# Altium footprint library Misc.PcbLib: 53 footprints (part 2 of 4)
Each footprint in its own frame and in the unit in brackets; x right, y up, seen from the top. Pads: shape width x height; smd on the part's side, far side on the other; paste and mask are expansions set on the pad; w line width, h text height; cw(c..) or ccw(c..) is an arc to the next point about the centre after c.
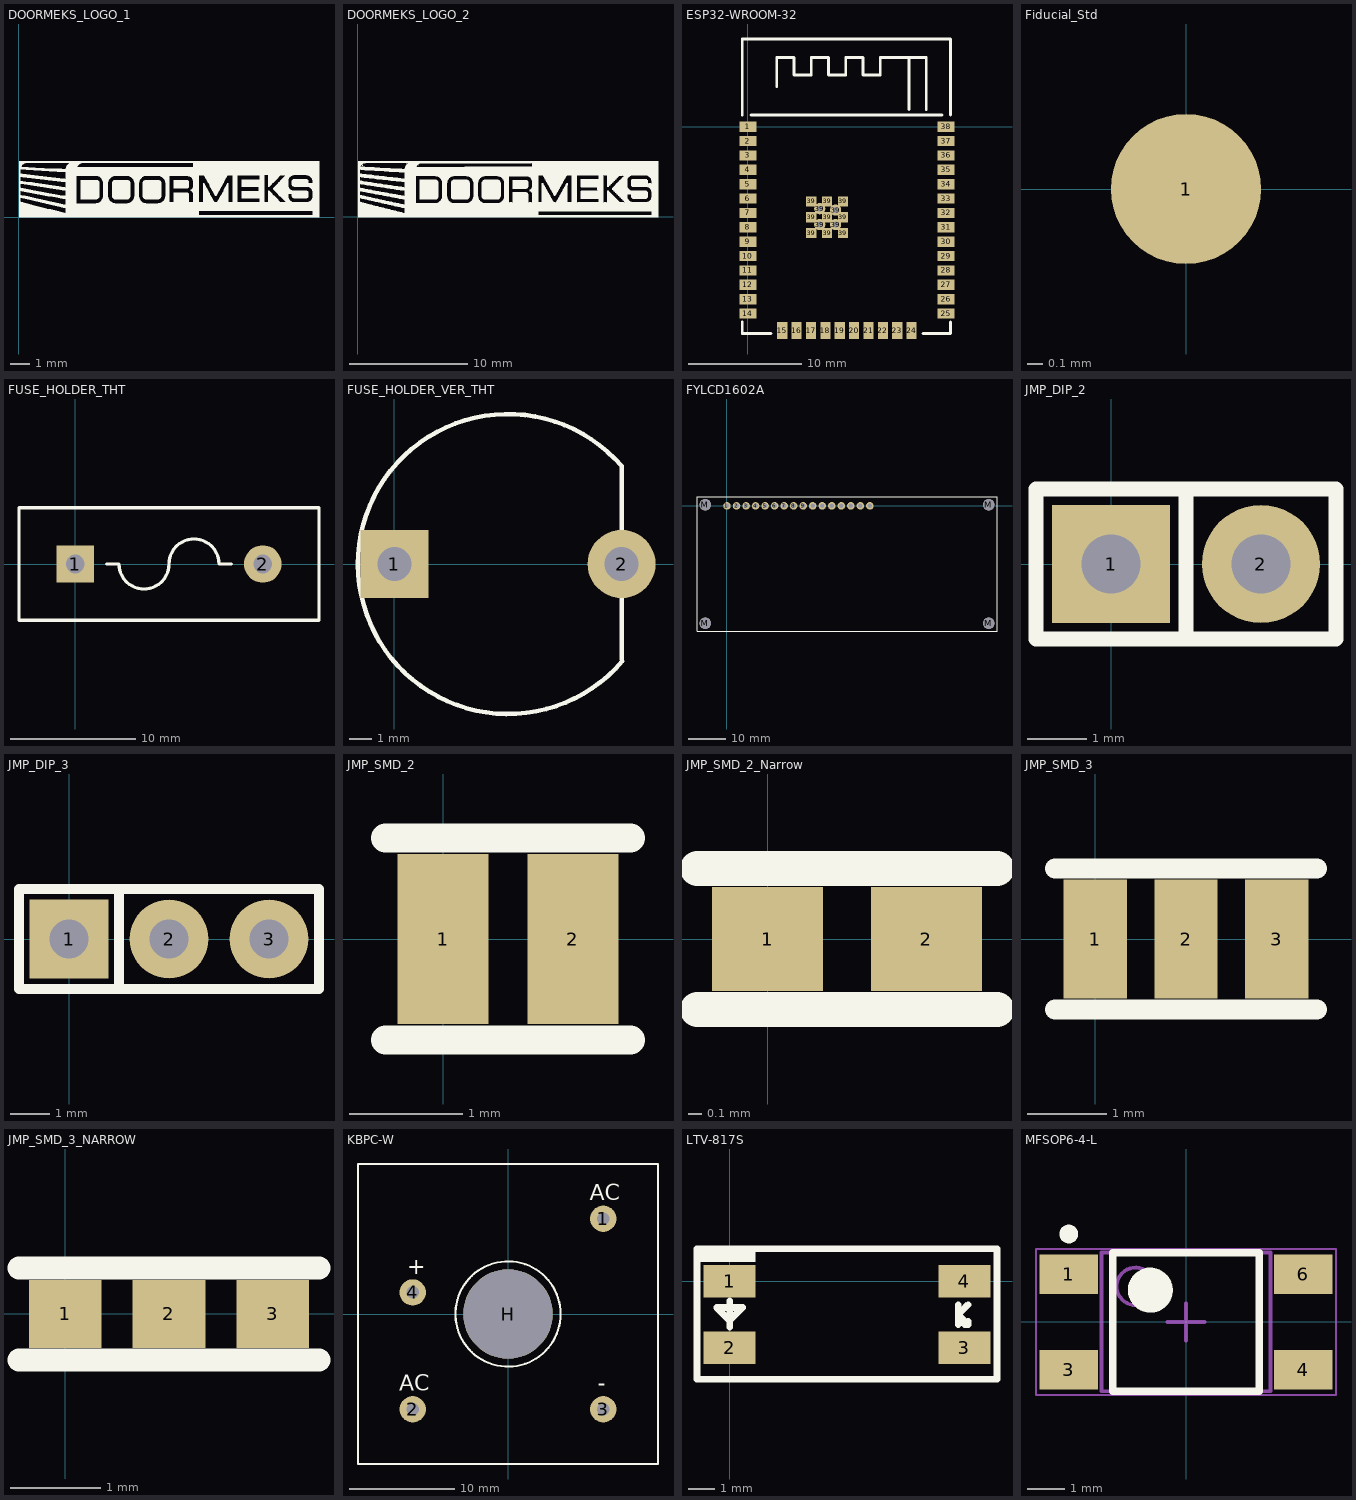
[diagram p1: the footprints below, top view; thin cyan lines are the x and y axes]

## DOORMEKS_LOGO_1 [mm]
Top Overlay:
  drawing of 1132 lines, arcs and shapes, not listed

## DOORMEKS_LOGO_2 [mm]
Top Overlay:
  drawing of 1761 lines, arcs and shapes, not listed

## ESP32-WROOM-32 [mm]
height 3
pads (51):
  rect 1.5x0.9 smd: 1(0,0) 2(0,-1.27) 3(0,-2.54) 4(0,-3.81) 5(0,-5.08) 6(0,-6.35) 7(0,-7.62) 8(0,-8.89) 9(0,-10.16) 10(0,-11.43) 11(0,-12.7) 12(0,-13.97) 13(0,-15.24) 14(0,-16.51) 25(17.5,-16.51) 26(17.5,-15.24) 27(17.5,-13.97) 28(17.5,-12.7) 29(17.5,-11.43) 30(17.5,-10.16) 31(17.5,-8.89) 32(17.5,-7.62) 33(17.5,-6.35) 34(17.5,-5.08) 35(17.5,-3.81) 36(17.5,-2.54) 37(17.5,-1.27) 38(17.5,0)
  rect 0.9x1.5 smd: 15(3.03,-18.01) 16(4.3,-18.01) 17(5.57,-18.01) 18(6.84,-18.01) 19(8.11,-18.01) 20(9.38,-18.01) 21(10.65,-18.01) 22(11.92,-18.01) 23(13.19,-18.01) 24(14.46,-18.01)
  rect 0.9x0.9 smd: 39(5.592,-9.398) 39(5.592,-7.998) 39(5.592,-6.598) 39(6.992,-6.598) 39(6.992,-9.398) 39(6.992,-7.998) 39(8.392,-6.598) 39(8.392,-9.398) 39(8.392,-7.998)
  round 1 hole 0.5: 39(6.342,-8.648) 39(6.342,-7.248) 39(7.742,-8.648) 39(7.742,-7.366)
Top Overlay:
  lines w0.254: -0.508,-17.272 -0.508,-18.288 2.032,-18.288 ; -0.508,1.016 -0.508,7.747 17.907,7.747 17.907,1.016 ; 0.254,1.016 17.145,1.016 ; 2.54,3.556 2.54,6.096 4.064,6.096 4.064,4.572 5.588,4.572 5.588,6.096 7.112,6.096 7.112,4.572 8.636,4.572 8.636,6.096 10.16,6.096 10.16,4.572 11.684,4.572 11.684,6.096 12.7,6.096 15.748,6.096 15.748,1.524 ; 14.224,1.524 14.224,6.096 ; 15.468,-18.288 17.907,-18.288 17.907,-17.272
3D body "esp-wroom-32.step": height 3, standoff -0.04, extent -0.314,-18.049 17.756,7.491

## Fiducial_Std [mm]
pads (1):
  round 1 smd paste-0.5: 1(0,0)
Top Solder:
  rectangle: -1,-1 1,1

## FUSE_HOLDER_THT [mm]
height 10
pads (2):
  rect 3x3 hole 1.5: 1(0,0)
  round 3 hole 1.5: 2(15,0)
Top Overlay:
  lines w0.254: 2.5,0 3.5,0 ccw(c5.5,0) 7.5,0 cw(c9.5,0) 11.5,0 12.5,0 ; -4.5,-4.5 19.5,-4.5 19.5,4.5 -4.5,4.5 -4.5,-4.5
3D body "Fuse Holder Black CFH17.step": height 12.5, standoff -3.5, extent -4.7,-4.7 19.7,4.7

## FUSE_HOLDER_VER_THT [mm]
height 28
pads (2):
  rect 3x3 hole 1.5: 1(0,0)
  round 3 hole 1.5: 2(10,0)
Top Overlay:
  lines w0.2: 9.997,4.311 ccw(c5,0) 10.031,-4.272 ; 10,-4.2 10,4.3
3D body "Fuse Holder PCB 20x5.step": height 33, standoff -5, extent -0.941,-6.5 10.759,6.5

## FYLCD1602A [mm]
pads (20):
  round 2 hole 1.2: 1(0,0) 2(2.54,0) 3(5.08,0) 4(7.62,0) 5(10.16,0) 6(12.7,0) 7(15.24,0) 8(17.78,0) 9(20.32,0) 10(22.86,0) 11(25.4,0) 12(27.94,0) 13(30.48,0) 14(33.02,0) 15(35.56,0) 16(38.1,0)
  round 3 hole 3 unplated: M(-5.8,-31.3) M(-5.8,0.3) M(69.8,-31.3) M(69.8,0.3)
Top Overlay:
  lines w0.2: -8,-33.5 -8,2.5 72,2.5 72,-33.5 -8,-33.5
3D body: height 5, standoff 0, extent -1.27,-1.27 39.37,1.27
3D body: height 7, standoff 5, extent -8,-33.5 72,2.5
3D body: height 11, standoff 7, extent -3,-22 67,-5

## JMP_DIP_2 [mm]
height 2.54
pads (2):
  rect 2x2 hole 1: 1(0,0)
  round 2 hole 1: 2(2.54,0)
Top Overlay:
  lines w0.254: 1.27,-1.27 1.27,1.27 ; -1.27,-1.27 -1.27,1.27 3.81,1.27 3.81,-1.27 -1.27,-1.27
3D body "User Library-Header Vertical 2_54mm Pitch2-1.step": height 5.94, standoff -2.94, extent -1.27,-1.27 1.27,1.27
3D body "User Library-Header Vertical 2_54mm Pitch2-1.step": height 5.94, standoff -2.94, extent 1.27,-1.27 3.81,1.27

## JMP_DIP_3 [mm]
height 2.54
pads (3):
  rect 2x2 hole 1: 1(0,0)
  round 2 hole 1: 2(2.54,0) 3(5.08,0)
Top Overlay:
  lines w0.254: 1.27,-1.27 1.27,1.27 ; -1.27,-1.27 6.35,-1.27 6.35,1.27 -1.27,1.27 -1.27,-1.27
3D body "User Library-Header Vertical 2_54mm Pitch2-1.step": height 5.94, standoff -2.94, extent 3.81,-1.27 6.35,1.27
3D body "User Library-Header Vertical 2_54mm Pitch2-1.step": height 5.94, standoff -2.94, extent 1.27,-1.27 3.81,1.27
3D body "User Library-Header Vertical 2_54mm Pitch2-1.step": height 5.94, standoff -2.94, extent -1.27,-1.27 1.27,1.27

## JMP_SMD_2 [mm]
pads (2):
  rect 0.8x1.5 smd: 1(0,0) 2(1.143,0)
Top Overlay:
  lines w0.254: -0.508,-0.889 1.651,-0.889 ; -0.508,0.889 1.651,0.889
Top Solder:
  rectangle: 0.457,-0.838 0.686,0.838

## JMP_SMD_2_Narrow [mm]
pads (2):
  rect 0.8x0.75 smd: 1(0,0) 2(1.143,0)
Top Overlay:
  lines w0.254: -0.508,-0.508 1.651,-0.508 ; -0.508,0.508 1.651,0.508
Top Solder:
  rectangle: 0.457,-0.508 0.686,0.508

## JMP_SMD_3 [mm]
pads (3):
  rect 0.8x1.5 smd: 1(0,0) 2(1.143,0) 3(2.286,0)
Top Overlay:
  lines w0.254: -0.508,-0.889 2.794,-0.889 ; -0.508,0.889 2.794,0.889
Top Solder:
  rectangle: 1.6,-0.838 1.829,0.838
  rectangle: 0.457,-0.838 0.686,0.838

## JMP_SMD_3_NARROW [mm]
pads (3):
  rect 0.8x0.75 smd: 1(0,0) 2(1.143,0) 3(2.286,0)
Top Overlay:
  lines w0.254: -0.508,-0.508 2.794,-0.508 ; -0.508,0.508 2.794,0.508
Top Solder:
  rectangle: 0.457,-0.508 0.686,0.508
  rectangle: 1.6,-0.508 1.829,0.508

## KBPC-W [mm]
pads (5):
  round 2.5 hole 1.2: 1(9.05,9.05) 2(-9.05,-9.05) 3(9.05,-9.05) 4(-9.05,2.05)
  round 8.5 hole 8.5 unplated: H(0,0)
Top Overlay:
  circle w0.2: c0,0 r5
  lines w0.2: -14.25,-14.25 14.25,-14.25 14.25,14.25 -14.25,14.25 -14.25,-14.25
  text "-" at 8.542,-7.305 h1.52
  text "+" at -9.558,3.795 h1.52
  text "AC" at 7.78,10.795 h1.52
  text "AC" at -10.32,-7.305 h1.52
3D body "KBPC3504W.step": height 11.23, standoff -19.27, extent -14.4,-14.4 14.4,14.4

## LTV-817S [mm]
pads (4):
  rect 2x1.25 smd: 1(0,0) 2(0,-2.54) 3(9,-2.54) 4(9,0)
Top Overlay:
  rectangle: -1.25,0.75 1,1.25
  lines w0.254: 0,-1.75 0,-0.75 ; 8.763,-1.651 8.763,-0.889 ; 8.89,-1.397 9.144,-1.651 ; 8.89,-1.143 9.144,-0.889 ; 9.017,-1.651 9.144,-1.651 ; 9.144,-1.524 9.144,-1.651 ; -1.25,-3.75 -1.25,1.25 10.25,1.25 10.25,-3.75 -1.25,-3.75 ; -0.5,-1 0.5,-1 0,-1.5 -0.5,-1
3D body "ltv817-4-SMD.step": height 3.81, standoff 0.05, extent -0.58,-3.569 9.58,1.029

## MFSOP6-4-L [mm] "SOP, 4-Leads, Body 3,60x4,40mm, Pitch 2,54mm, IPC High Density"
height 2.65
pads (4):
  rect 1.55x1.05 smd: 1(-3.125,1.27) 3(-3.125,-1.27) 4(3.125,-1.27) 6(3.125,1.27)
Top Overlay:
  circle w0.25: c-3.125,2.345 r0.125
  circle w0.6: c-0.95,0.85 r0.3
  lines w0.2: -1.95,-1.85 -1.95,1.85 1.95,1.85 1.95,-1.85 -1.95,-1.85
Mechanical 13:
  circle w0.1: c-1.35,0.95 r0.5
  lines w0.1: -2.25,-1.85 -2.25,1.85 2.25,1.85 2.25,-1.85 -2.25,-1.85
Mechanical 15:
  lines w0.05: -4,-1.95 -4,1.95 4,1.95 4,-1.95 -4,-1.95
  lines w0.1: -0.5,0 0.5,0 ; 0,-0.5 0,0.5
3D body "MFSOP6-4-L.step": height 2.65, standoff 0, extent -3.625,-1.85 3.625,1.85